# Altium integrated library Circuitos de cierre.IntLib: 1 symbol
Pins are listed as number, name and electrical type; pins without a type are passive.

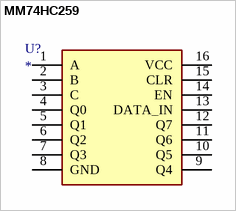
[diagram p0: symbol MM74HC259]

## MM74HC259
designator U?
8-Bit Addressable Latch/3-to-8 Line Decoder; ComponentLink1Description: datasheet; ComponentLink1URL: https://www.mouser.es/datasheet/2/308/mm74hc259-1193422.pdf
footprint SOIC127P600X175-16N
pins: 1 A, 2 B, 3 C, 4 Q0, 5 Q1, 6 Q2, 7 Q3, 8 GND, 9 Q4, 10 Q5, 11 Q6, 12 Q7, 13 DATA_IN, 14 EN, 15 CLR, 16 VCC